# Altium integrated library Maxim Sensors.IntLib: 1171 symbols (part 28 of 61)
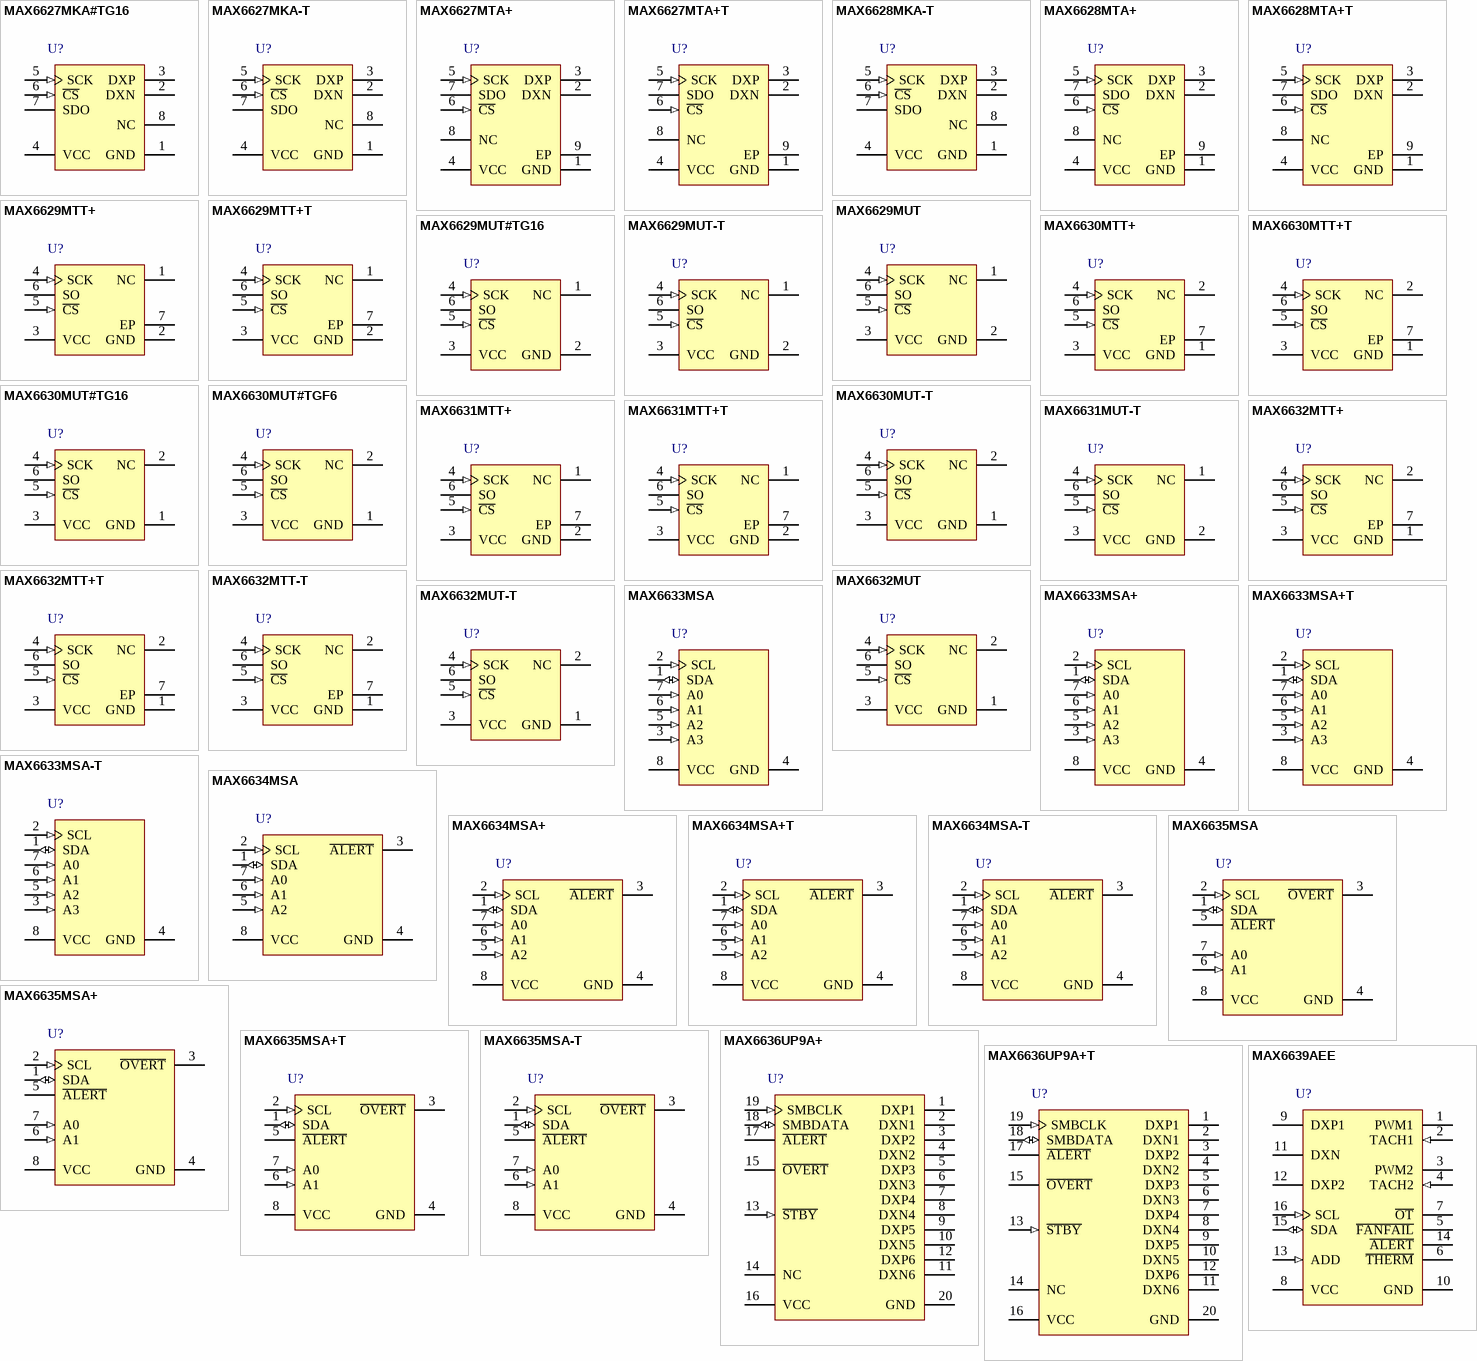
[diagram p60: symbols MAX6627MKA#TG16 to MAX6639AEE]

## MAX6632MUT
designator U?
+ Sign Digital Temperature Sensor with Serial Interface, 12 Bits Temperature Resolution, -55 to 125 degC, 6-Pin SOT23 (U6F-6); Generic Part Number: MAX6632; PartNumber: MAX6632MUT; Interface: 3-Wire/SPI; Parasite Pwr.: No; DatasheetVersion: Rev. 4; PackageVersion: Rev. N, 08/2012; PackageReference: U6F-6; PackageDescription: 6-Pin Small-Outline Transistor Package, Body 1.625 x 2.9 mm, Pitch 0.95 mm; Supplier 1: Mouser; Supplier Part Number 1: N/A; Mounting Technology: Surface Mount; Code_JEDEC: MO-178; ComponentLink1Description: Manufacturer URL; ComponentLink1URL: http://www.maximintegrated.com/; ComponentLink2Description: Datasheet; ComponentLink2URL: http://datasheets.maximintegrated.com/en/ds/MAX6629-MAX6632.pdf; ComponentLink3Description: Package Specification; ComponentLink3URL: http://pdfserv.maximintegrated.com/package_dwgs/21-0058.PDF
footprint MAXM-U6F-6_N (SOT23, 6-Leads, Body 2.9x1.625mm, Pitch 0.95mm, IPC Medium Density)
footprint MAXM-U6F-6_L (SOT23, 6-Leads, Body 2.9x1.625mm, Pitch 0.95mm, IPC High Density)
footprint MAXM-U6F-6_M (SOT23, 6-Leads, Body 2.9x1.625mm, Pitch 0.95mm, IPC Low Density)
pins: 1 GND (power) "Ground", 2 NC "No Connect. Connect to ground plane for better thermal performance to the PC board.", 3 VCC (power) "Supply Voltage Input. Bypass VCC to GND with a 0.1uF capacitor. VCC can also be powered from a logic output as long as the voltage level is greater than 3.0V and the logic output is not noisy. Setting the logic output low (See Datasheet)", 4 SCK (in) "Serial Clock Input", 5 ~{CS} (in) "Chip-Select Input. Enables the interface. A rising edge off C\S\ initiates the next conversion. Pulling C\S\ low initiates an idle state.", 6 SO (hiz) "Serial Data Output"

## MAX6632MUT-T
designator U?
+ Sign Digital Temperature Sensor with Serial Interface, 12 Bits Temperature Resolution, -55 to 125 degC, 6-Pin SOT23 (U6F-6), Tape and Reel; Generic Part Number: MAX6632; PartNumber: MAX6632MUT-T; Interface: 3-Wire/SPI; Parasite Pwr.: No; DatasheetVersion: Rev. 4; PackageVersion: Rev. N, 08/2012; PackageReference: U6F-6; PackageDescription: 6-Pin Small-Outline Transistor Package, Body 1.625 x 2.9 mm, Pitch 0.95 mm; Supplier 1: Digi-Key; Supplier Part Number 1: MAX6632MUT-T-ND; Supplier 2: Mouser; Supplier Part Number 2: 700-MAX6632MUT-T-; Packing: Tape and Reel; Mounting Technology: Surface Mount; Code_JEDEC: MO-178; ComponentLink1Description: Manufacturer URL; ComponentLink1URL: http://www.maximintegrated.com/; ComponentLink2Description: Datasheet; ComponentLink2URL: http://datasheets.maximintegrated.com/en/ds/MAX6629-MAX6632.pdf; ComponentLink3Description: Package Specification; ComponentLink3URL: http://pdfserv.maximintegrated.com/package_dwgs/21-0058.PDF
footprint MAXM-U6F-6_N (SOT23, 6-Leads, Body 2.9x1.625mm, Pitch 0.95mm, IPC Medium Density)
footprint MAXM-U6F-6_L (SOT23, 6-Leads, Body 2.9x1.625mm, Pitch 0.95mm, IPC High Density)
footprint MAXM-U6F-6_M (SOT23, 6-Leads, Body 2.9x1.625mm, Pitch 0.95mm, IPC Low Density)
pins: 1 GND (power) "Ground", 2 NC "No Connect. Connect to ground plane for better thermal performance to the PC board.", 3 VCC (power) "Supply Voltage Input. Bypass VCC to GND with a 0.1uF capacitor. VCC can also be powered from a logic output as long as the voltage level is greater than 3.0V and the logic output is not noisy. Setting the logic output low (See Datasheet)", 4 SCK (in) "Serial Clock Input", 5 ~{CS} (in) "Chip-Select Input. Enables the interface. A rising edge off C\S\ initiates the next conversion. Pulling C\S\ low initiates an idle state.", 6 SO (hiz) "Serial Data Output"

## MAX6633MSA
designator U?
12-Bit Plus Sign Temperature Sensor with I2C / SMBus-Compatible Serial Interface, 13 Bits Temperature Resolution, -55 to 150 degC, 8-Pin SOIC (S8-2); Generic Part Number: MAX6633; PartNumber: MAX6633MSA; Interface: 2-Wire/I2C/SMBus; Multi Droppable: Yes; Parasite Pwr.: No; DatasheetVersion: Rev. 0; PackageVersion: Rev. D, 10/2012; PackageReference: S8-2; PackageDescription: 8-Pin Small-Outline IC, Narrow (0.15in) (S8-2), Body 4.90 x 3.90 mm, Pitch 1.27 mm; Supplier 1: Mouser; Supplier Part Number 1: N/A; Mounting Technology: Surface Mount; Code_JEDEC: MS012; ComponentLink1Description: Manufacturer URL; ComponentLink1URL: http://www.maximintegrated.com/; ComponentLink2Description: Datasheet; ComponentLink2URL: http://datasheets.maximintegrated.com/en/ds/MAX6633-MAX6635.pdf; ComponentLink3Description: Package Specification; ComponentLink3URL: http://pdfserv.maximintegrated.com/package_dwgs/21-0041.PDF
footprint MAXM-S8-2_N (SOIC, 8-Leads, Body 4.90x3.90mm, Pitch 1.27mm, IPC Medium Density)
footprint MAXM-S8-2_L (SOIC, 8-Leads, Body 4.90x3.90mm, Pitch 1.27mm, IPC High Density)
footprint MAXM-S8-2_M (SOIC, 8-Leads, Body 4.90x3.90mm, Pitch 1.27mm, IPC Low Density)
pins: 1 SDA (io) "Serial Data Input/Output. Open drain.", 2 SCL (in) "Serial Clock Input", 3 A3 (in) "Address Pin", 4 GND (power) "Ground", 5 A2 (in) "Address Pin", 6 A1 (in) "Address Pin", 7 A0 (in) "Address Pin", 8 VCC (power) "Supply Voltage Input. +3.0V to +5.5V. Bypass VCC to GND with a 0.1uF capacitor."

## MAX6633MSA+
designator U?
12-Bit Plus Sign Temperature Sensor with I2C / SMBus-Compatible Serial Interface, 13 Bits Temperature Resolution, -55 to 150 degC, 8-Pin SOIC (S8+2), Pb-Free; Generic Part Number: MAX6633; PartNumber: MAX6633MSA+; Interface: 2-Wire/I2C/SMBus; Multi Droppable: Yes; Parasite Pwr.: No; DatasheetVersion: Rev. 0; PackageVersion: Rev. D, 10/2012; PackageReference: S8+2; PackageDescription: 8-Pin Small-Outline IC, Narrow (0.15in) (S8+2), Body 4.90 x 3.90 mm, Pitch 1.27 mm; Supplier 1: Digi-Key; Supplier Part Number 1: MAX6633MSA+-ND; Supplier 2: Farnell; Supplier Part Number 2: 2113188; Supplier 3: Newark; Supplier Part Number 3: 95T9212; Supplier 4: Mouser; Supplier Part Number 4: 700-MAX6633MSA; Mounting Technology: Surface Mount; Code_JEDEC: MS012; ComponentLink1Description: Manufacturer URL; ComponentLink1URL: http://www.maximintegrated.com/; ComponentLink2Description: Datasheet; ComponentLink2URL: http://datasheets.maximintegrated.com/en/ds/MAX6633-MAX6635.pdf; ComponentLink3Description: Package Specification; ComponentLink3URL: http://pdfserv.maximintegrated.com/package_dwgs/21-0041.PDF
footprint MAXM-S8+2_N (SOIC, 8-Leads, Body 4.90x3.90mm, Pitch 1.27mm, IPC Medium Density)
footprint MAXM-S8+2_L (SOIC, 8-Leads, Body 4.90x3.90mm, Pitch 1.27mm, IPC High Density)
footprint MAXM-S8+2_M (SOIC, 8-Leads, Body 4.90x3.90mm, Pitch 1.27mm, IPC Low Density)
pins: 1 SDA (io) "Serial Data Input/Output. Open drain.", 2 SCL (in) "Serial Clock Input", 3 A3 (in) "Address Pin", 4 GND (power) "Ground", 5 A2 (in) "Address Pin", 6 A1 (in) "Address Pin", 7 A0 (in) "Address Pin", 8 VCC (power) "Supply Voltage Input. +3.0V to +5.5V. Bypass VCC to GND with a 0.1uF capacitor."

## MAX6633MSA+T
designator U?
12-Bit Plus Sign Temperature Sensor with I2C / SMBus-Compatible Serial Interface, 13 Bits Temperature Resolution, -55 to 150 degC, 8-Pin SOIC (S8+2), Pb-Free, Tape and Reel; Generic Part Number: MAX6633; PartNumber: MAX6633MSA+T; Interface: 2-Wire/I2C/SMBus; Multi Droppable: Yes; Parasite Pwr.: No; DatasheetVersion: Rev. 0; PackageVersion: Rev. D, 10/2012; PackageReference: S8+2; PackageDescription: 8-Pin Small-Outline IC, Narrow (0.15in) (S8+2), Body 4.90 x 3.90 mm, Pitch 1.27 mm; Supplier 1: Digi-Key; Supplier Part Number 1: MAX6633MSA+T-ND; Supplier 2: Mouser; Supplier Part Number 2: 700-MAX6633MSAT; Packing: Tape and Reel; Mounting Technology: Surface Mount; Code_JEDEC: MS012; ComponentLink1Description: Manufacturer URL; ComponentLink1URL: http://www.maximintegrated.com/; ComponentLink2Description: Datasheet; ComponentLink2URL: http://datasheets.maximintegrated.com/en/ds/MAX6633-MAX6635.pdf; ComponentLink3Description: Package Specification; ComponentLink3URL: http://pdfserv.maximintegrated.com/package_dwgs/21-0041.PDF
footprint MAXM-S8+2_N (SOIC, 8-Leads, Body 4.90x3.90mm, Pitch 1.27mm, IPC Medium Density)
footprint MAXM-S8+2_L (SOIC, 8-Leads, Body 4.90x3.90mm, Pitch 1.27mm, IPC High Density)
footprint MAXM-S8+2_M (SOIC, 8-Leads, Body 4.90x3.90mm, Pitch 1.27mm, IPC Low Density)
pins: 1 SDA (io) "Serial Data Input/Output. Open drain.", 2 SCL (in) "Serial Clock Input", 3 A3 (in) "Address Pin", 4 GND (power) "Ground", 5 A2 (in) "Address Pin", 6 A1 (in) "Address Pin", 7 A0 (in) "Address Pin", 8 VCC (power) "Supply Voltage Input. +3.0V to +5.5V. Bypass VCC to GND with a 0.1uF capacitor."

## MAX6633MSA-T
designator U?
12-Bit Plus Sign Temperature Sensor with I2C / SMBus-Compatible Serial Interface, 13 Bits Temperature Resolution, -55 to 150 degC, 8-Pin SOIC (S8-2), Tape and Reel; Generic Part Number: MAX6633; PartNumber: MAX6633MSA-T; Interface: 2-Wire/I2C/SMBus; Multi Droppable: Yes; Parasite Pwr.: No; DatasheetVersion: Rev. 0; PackageVersion: Rev. D, 10/2012; PackageReference: S8-2; PackageDescription: 8-Pin Small-Outline IC, Narrow (0.15in) (S8-2), Body 4.90 x 3.90 mm, Pitch 1.27 mm; Supplier 1: Mouser; Supplier Part Number 1: N/A; Packing: Tape and Reel; Mounting Technology: Surface Mount; Code_JEDEC: MS012; ComponentLink1Description: Manufacturer URL; ComponentLink1URL: http://www.maximintegrated.com/; ComponentLink2Description: Datasheet; ComponentLink2URL: http://datasheets.maximintegrated.com/en/ds/MAX6633-MAX6635.pdf; ComponentLink3Description: Package Specification; ComponentLink3URL: http://pdfserv.maximintegrated.com/package_dwgs/21-0041.PDF
footprint MAXM-S8-2_N (SOIC, 8-Leads, Body 4.90x3.90mm, Pitch 1.27mm, IPC Medium Density)
footprint MAXM-S8-2_L (SOIC, 8-Leads, Body 4.90x3.90mm, Pitch 1.27mm, IPC High Density)
footprint MAXM-S8-2_M (SOIC, 8-Leads, Body 4.90x3.90mm, Pitch 1.27mm, IPC Low Density)
pins: 1 SDA (io) "Serial Data Input/Output. Open drain.", 2 SCL (in) "Serial Clock Input", 3 A3 (in) "Address Pin", 4 GND (power) "Ground", 5 A2 (in) "Address Pin", 6 A1 (in) "Address Pin", 7 A0 (in) "Address Pin", 8 VCC (power) "Supply Voltage Input. +3.0V to +5.5V. Bypass VCC to GND with a 0.1uF capacitor."

## MAX6634MSA
designator U?
12-Bit Plus Sign Temperature Sensor with I2C / SMBus-Compatible Serial Interface, 13 Bits Temperature Resolution, -55 to 150 degC, 8-Pin SOIC (S8-2); Generic Part Number: MAX6634; PartNumber: MAX6634MSA; Alarm Output: Alert; Interface: 2-Wire/I2C/SMBus; Multi Droppable: Yes; Parasite Pwr.: No; DatasheetVersion: Rev. 0; PackageVersion: Rev. D, 10/2012; PackageReference: S8-2; PackageDescription: 8-Pin Small-Outline IC, Narrow (0.15in) (S8-2), Body 4.90 x 3.90 mm, Pitch 1.27 mm; Supplier 1: Digi-Key; Supplier Part Number 1: MAX6634MSA-ND; Supplier 2: Mouser; Supplier Part Number 2: 700-MAX6634MSA-NR; Mounting Technology: Surface Mount; Code_JEDEC: MS012; ComponentLink1Description: Manufacturer URL; ComponentLink1URL: http://www.maximintegrated.com/; ComponentLink2Description: Datasheet; ComponentLink2URL: http://datasheets.maximintegrated.com/en/ds/MAX6633-MAX6635.pdf; ComponentLink3Description: Package Specification; ComponentLink3URL: http://pdfserv.maximintegrated.com/package_dwgs/21-0041.PDF
footprint MAXM-S8-2_N (SOIC, 8-Leads, Body 4.90x3.90mm, Pitch 1.27mm, IPC Medium Density)
footprint MAXM-S8-2_L (SOIC, 8-Leads, Body 4.90x3.90mm, Pitch 1.27mm, IPC High Density)
footprint MAXM-S8-2_M (SOIC, 8-Leads, Body 4.90x3.90mm, Pitch 1.27mm, IPC Low Density)
pins: 1 SDA (io) "Serial Data Input/Output. Open drain.", 2 SCL (in) "Serial Clock Input", 3 ~{ALERT} (oc) "A\L\E\R\T\ Output. Open drain.", 4 GND (power) "Ground", 5 A2 (in) "Address Pin", 6 A1 (in) "Address Pin", 7 A0 (in) "Address Pin", 8 VCC (power) "Supply Voltage Input. +3.0V to +5.5V. Bypass VCC to GND with a 0.1uF capacitor."

## MAX6634MSA+
designator U?
12-Bit Plus Sign Temperature Sensor with I2C / SMBus-Compatible Serial Interface, 13 Bits Temperature Resolution, -55 to 150 degC, 8Pin SOIC (S8+2), Pb-Free,; Generic Part Number: MAX6634; PartNumber: MAX6634MSA+; Alarm Output: Alert; Interface: 2-Wire/I2C/SMBus; Multi Droppable: Yes; Parasite Pwr.: No; DatasheetVersion: Rev. 0; PackageVersion: Rev. D, 10/2012; PackageReference: S8+2; PackageDescription: 8-Pin Small-Outline IC, Narrow (0.15in) (S8+2), Body 4.90 x 3.90 mm, Pitch 1.27 mm; Supplier 1: Digi-Key; Supplier Part Number 1: MAX6634MSA+-ND; Supplier 2: Mouser; Supplier Part Number 2: 700-MAX6634MSA; Mounting Technology: Surface Mount; Code_JEDEC: MS012; ComponentLink1Description: Manufacturer URL; ComponentLink1URL: http://www.maximintegrated.com/; ComponentLink2Description: Datasheet; ComponentLink2URL: http://datasheets.maximintegrated.com/en/ds/MAX6633-MAX6635.pdf; ComponentLink3Description: Package Specification; ComponentLink3URL: http://pdfserv.maximintegrated.com/package_dwgs/21-0041.PDF
footprint MAXM-S8+2_N (SOIC, 8-Leads, Body 4.90x3.90mm, Pitch 1.27mm, IPC Medium Density)
footprint MAXM-S8+2_L (SOIC, 8-Leads, Body 4.90x3.90mm, Pitch 1.27mm, IPC High Density)
footprint MAXM-S8+2_M (SOIC, 8-Leads, Body 4.90x3.90mm, Pitch 1.27mm, IPC Low Density)
pins: 1 SDA (io) "Serial Data Input/Output. Open drain.", 2 SCL (in) "Serial Clock Input", 3 ~{ALERT} (oc) "A\L\E\R\T\ Output. Open drain.", 4 GND (power) "Ground", 5 A2 (in) "Address Pin", 6 A1 (in) "Address Pin", 7 A0 (in) "Address Pin", 8 VCC (power) "Supply Voltage Input. +3.0V to +5.5V. Bypass VCC to GND with a 0.1uF capacitor."

## MAX6634MSA+T
designator U?
12-Bit Plus Sign Temperature Sensor with I2C / SMBus-Compatible Serial Interface, 13 Bits Temperature Resolution, -55 to 150 degC, 8-Pin SOIC (S8+2), Pb-Free, Tape and Reel; Generic Part Number: MAX6634; PartNumber: MAX6634MSA+T; Alarm Output: Alert; Interface: 2-Wire/I2C/SMBus; Multi Droppable: Yes; Parasite Pwr.: No; DatasheetVersion: Rev. 0; PackageVersion: Rev. D, 10/2012; PackageReference: S8+2; PackageDescription: 8-Pin Small-Outline IC, Narrow (0.15in) (S8+2), Body 4.90 x 3.90 mm, Pitch 1.27 mm; Supplier 1: Digi-Key; Supplier Part Number 1: MAX6634MSA+T-ND; Supplier 2: Mouser; Supplier Part Number 2: 700-MAX6634MSAT; Packing: Tape and Reel; Mounting Technology: Surface Mount; Code_JEDEC: MS012; ComponentLink1Description: Manufacturer URL; ComponentLink1URL: http://www.maximintegrated.com/; ComponentLink2Description: Datasheet; ComponentLink2URL: http://datasheets.maximintegrated.com/en/ds/MAX6633-MAX6635.pdf; ComponentLink3Description: Package Specification; ComponentLink3URL: http://pdfserv.maximintegrated.com/package_dwgs/21-0041.PDF
footprint MAXM-S8+2_N (SOIC, 8-Leads, Body 4.90x3.90mm, Pitch 1.27mm, IPC Medium Density)
footprint MAXM-S8+2_L (SOIC, 8-Leads, Body 4.90x3.90mm, Pitch 1.27mm, IPC High Density)
footprint MAXM-S8+2_M (SOIC, 8-Leads, Body 4.90x3.90mm, Pitch 1.27mm, IPC Low Density)
pins: 1 SDA (io) "Serial Data Input/Output. Open drain.", 2 SCL (in) "Serial Clock Input", 3 ~{ALERT} (oc) "A\L\E\R\T\ Output. Open drain.", 4 GND (power) "Ground", 5 A2 (in) "Address Pin", 6 A1 (in) "Address Pin", 7 A0 (in) "Address Pin", 8 VCC (power) "Supply Voltage Input. +3.0V to +5.5V. Bypass VCC to GND with a 0.1uF capacitor."

## MAX6634MSA-T
designator U?
12-Bit Plus Sign Temperature Sensor with I2C / SMBus-Compatible Serial Interface, 13 Bits Temperature Resolution, -55 to 150 degC, 8-Pin SOIC (S8-2), Tape and Reel; Generic Part Number: MAX6634; PartNumber: MAX6634MSA-T; Alarm Output: Alert; Interface: 2-Wire/I2C/SMBus; Multi Droppable: Yes; Parasite Pwr.: No; DatasheetVersion: Rev. 0; PackageVersion: Rev. D, 10/2012; PackageReference: S8-2; PackageDescription: 8-Pin Small-Outline IC, Narrow (0.15in) (S8-2), Body 4.90 x 3.90 mm, Pitch 1.27 mm; Supplier 1: Digi-Key; Supplier Part Number 1: MAX6634MSA-T-ND; Supplier 2: Mouser; Supplier Part Number 2: 700-MAX6634MSA-T-NR; Packing: Tape and Reel; Mounting Technology: Surface Mount; Code_JEDEC: MS012; ComponentLink1Description: Manufacturer URL; ComponentLink1URL: http://www.maximintegrated.com/; ComponentLink2Description: Datasheet; ComponentLink2URL: http://datasheets.maximintegrated.com/en/ds/MAX6633-MAX6635.pdf; ComponentLink3Description: Package Specification; ComponentLink3URL: http://pdfserv.maximintegrated.com/package_dwgs/21-0041.PDF
footprint MAXM-S8-2_N (SOIC, 8-Leads, Body 4.90x3.90mm, Pitch 1.27mm, IPC Medium Density)
footprint MAXM-S8-2_L (SOIC, 8-Leads, Body 4.90x3.90mm, Pitch 1.27mm, IPC High Density)
footprint MAXM-S8-2_M (SOIC, 8-Leads, Body 4.90x3.90mm, Pitch 1.27mm, IPC Low Density)
pins: 1 SDA (io) "Serial Data Input/Output. Open drain.", 2 SCL (in) "Serial Clock Input", 3 ~{ALERT} (oc) "A\L\E\R\T\ Output. Open drain.", 4 GND (power) "Ground", 5 A2 (in) "Address Pin", 6 A1 (in) "Address Pin", 7 A0 (in) "Address Pin", 8 VCC (power) "Supply Voltage Input. +3.0V to +5.5V. Bypass VCC to GND with a 0.1uF capacitor."

## MAX6635MSA
designator U?
12-Bit Plus Sign Temperature Sensor with I2C / SMBus-Compatible Serial Interface, 13 Bits Temperature Resolution, -55 to 150 degC, 8-Pin SOIC (S8-2); Generic Part Number: MAX6635; PartNumber: MAX6635MSA; Alarm Output: Alert, Overt; Interface: 2-Wire/I2C/SMBus; Multi Droppable: Yes; Parasite Pwr.: No; DatasheetVersion: Rev. 0; PackageVersion: Rev. D, 10/2012; PackageReference: S8-2; PackageDescription: 8-Pin Small-Outline IC, Narrow (0.15in) (S8-2), Body 4.90 x 3.90 mm, Pitch 1.27 mm; Supplier 1: Mouser; Supplier Part Number 1: N/A; Mounting Technology: Surface Mount; Code_JEDEC: MS012; ComponentLink1Description: Manufacturer URL; ComponentLink1URL: http://www.maximintegrated.com/; ComponentLink2Description: Datasheet; ComponentLink2URL: http://datasheets.maximintegrated.com/en/ds/MAX6633-MAX6635.pdf; ComponentLink3Description: Package Specification; ComponentLink3URL: http://pdfserv.maximintegrated.com/package_dwgs/21-0041.PDF
footprint MAXM-S8-2_N (SOIC, 8-Leads, Body 4.90x3.90mm, Pitch 1.27mm, IPC Medium Density)
footprint MAXM-S8-2_L (SOIC, 8-Leads, Body 4.90x3.90mm, Pitch 1.27mm, IPC High Density)
footprint MAXM-S8-2_M (SOIC, 8-Leads, Body 4.90x3.90mm, Pitch 1.27mm, IPC Low Density)
pins: 1 SDA (io) "Serial Data Input/Output. Open drain.", 2 SCL (in) "Serial Clock Input", 3 ~{OVERT} (oc) "O\V\E\R\T\ Output. Open drain.", 4 GND (power) "Ground", 5 ~{ALERT} (oc) "A\L\E\R\T\ Output. Open drain.", 6 A1 (in) "Address Pin", 7 A0 (in) "Address Pin", 8 VCC (power) "Supply Voltage Input. +3.0V to +5.5V. Bypass VCC to GND with a 0.1uF capacitor."

## MAX6635MSA+
designator U?
12-Bit Plus Sign Temperature Sensor with I2C / SMBus-Compatible Serial Interface, 13 Bits Temperature Resolution, -55 to 150 degC, 8-Pin SOIC (S8+2), Pb-Free; Generic Part Number: MAX6635; PartNumber: MAX6635MSA+; Alarm Output: Alert, Overt; Interface: 2-Wire/I2C/SMBus; Multi Droppable: Yes; Parasite Pwr.: No; DatasheetVersion: Rev. 0; PackageVersion: Rev. D, 10/2012; PackageReference: S8+2; PackageDescription: 8-Pin Small-Outline IC, Narrow (0.15in) (S8+2), Body 4.90 x 3.90 mm, Pitch 1.27 mm; Supplier 1: Digi-Key; Supplier Part Number 1: MAX6635MSA+-ND; Supplier 2: Mouser; Supplier Part Number 2: 700-MAX6635MSA; Mounting Technology: Surface Mount; Code_JEDEC: MS012; ComponentLink1Description: Manufacturer URL; ComponentLink1URL: http://www.maximintegrated.com/; ComponentLink2Description: Datasheet; ComponentLink2URL: http://datasheets.maximintegrated.com/en/ds/MAX6633-MAX6635.pdf; ComponentLink3Description: Package Specification; ComponentLink3URL: http://pdfserv.maximintegrated.com/package_dwgs/21-0041.PDF
footprint MAXM-S8+2_N (SOIC, 8-Leads, Body 4.90x3.90mm, Pitch 1.27mm, IPC Medium Density)
footprint MAXM-S8+2_L (SOIC, 8-Leads, Body 4.90x3.90mm, Pitch 1.27mm, IPC High Density)
footprint MAXM-S8+2_M (SOIC, 8-Leads, Body 4.90x3.90mm, Pitch 1.27mm, IPC Low Density)
pins: 1 SDA (io) "Serial Data Input/Output. Open drain.", 2 SCL (in) "Serial Clock Input", 3 ~{OVERT} (oc) "O\V\E\R\T\ Output. Open drain.", 4 GND (power) "Ground", 5 ~{ALERT} (oc) "A\L\E\R\T\ Output. Open drain.", 6 A1 (in) "Address Pin", 7 A0 (in) "Address Pin", 8 VCC (power) "Supply Voltage Input. +3.0V to +5.5V. Bypass VCC to GND with a 0.1uF capacitor."

## MAX6635MSA+T
designator U?
12-Bit Plus Sign Temperature Sensor with I2C / SMBus-Compatible Serial Interface, 13 Bits Temperature Resolution, -55 to 150 degC, 8-Pin SOIC (S8+2), Pb-Free, Tape and Reel; Generic Part Number: MAX6635; PartNumber: MAX6635MSA+T; Alarm Output: Alert, Overt; Interface: 2-Wire/I2C/SMBus; Multi Droppable: Yes; Parasite Pwr.: No; DatasheetVersion: Rev. 0; PackageVersion: Rev. D, 10/2012; PackageReference: S8+2; PackageDescription: 8-Pin Small-Outline IC, Narrow (0.15in) (S8+2), Body 4.90 x 3.90 mm, Pitch 1.27 mm; Supplier 1: Digi-Key; Supplier Part Number 1: MAX6635MSA+T-ND; Supplier 2: Mouser; Supplier Part Number 2: 700-MAX6635MSAT; Packing: Tape and Reel; Mounting Technology: Surface Mount; Code_JEDEC: MS012; ComponentLink1Description: Manufacturer URL; ComponentLink1URL: http://www.maximintegrated.com/; ComponentLink2Description: Datasheet; ComponentLink2URL: http://datasheets.maximintegrated.com/en/ds/MAX6633-MAX6635.pdf; ComponentLink3Description: Package Specification; ComponentLink3URL: http://pdfserv.maximintegrated.com/package_dwgs/21-0041.PDF
footprint MAXM-S8+2_N (SOIC, 8-Leads, Body 4.90x3.90mm, Pitch 1.27mm, IPC Medium Density)
footprint MAXM-S8+2_L (SOIC, 8-Leads, Body 4.90x3.90mm, Pitch 1.27mm, IPC High Density)
footprint MAXM-S8+2_M (SOIC, 8-Leads, Body 4.90x3.90mm, Pitch 1.27mm, IPC Low Density)
pins: 1 SDA (io) "Serial Data Input/Output. Open drain.", 2 SCL (in) "Serial Clock Input", 3 ~{OVERT} (oc) "O\V\E\R\T\ Output. Open drain.", 4 GND (power) "Ground", 5 ~{ALERT} (oc) "A\L\E\R\T\ Output. Open drain.", 6 A1 (in) "Address Pin", 7 A0 (in) "Address Pin", 8 VCC (power) "Supply Voltage Input. +3.0V to +5.5V. Bypass VCC to GND with a 0.1uF capacitor."

## MAX6635MSA-T
designator U?
12-Bit Plus Sign Temperature Sensor with I2C / SMBus-Compatible Serial Interface, 13 Bits Temperature Resolution, -55 to 150 degC, 8-Pin SOIC (S8+2), Tape and Reel; Generic Part Number: MAX6635; PartNumber: MAX6635MSA-T; Alarm Output: Alert, Overt; Interface: 2-Wire/I2C/SMBus; Multi Droppable: Yes; Parasite Pwr.: No; DatasheetVersion: Rev. 0; PackageVersion: Rev. D, 10/2012; PackageReference: S8-2; PackageDescription: 8-Pin Small-Outline IC, Narrow (0.15in) (S8-2), Body 4.90 x 3.90 mm, Pitch 1.27 mm; Supplier 1: Mouser; Supplier Part Number 1: N/A; Packing: Tape and Reel; Mounting Technology: Surface Mount; Code_JEDEC: MS012; ComponentLink1Description: Manufacturer URL; ComponentLink1URL: http://www.maximintegrated.com/; ComponentLink2Description: Datasheet; ComponentLink2URL: http://datasheets.maximintegrated.com/en/ds/MAX6633-MAX6635.pdf; ComponentLink3Description: Package Specification; ComponentLink3URL: http://pdfserv.maximintegrated.com/package_dwgs/21-0041.PDF
footprint MAXM-S8-2_N (SOIC, 8-Leads, Body 4.90x3.90mm, Pitch 1.27mm, IPC Medium Density)
footprint MAXM-S8-2_L (SOIC, 8-Leads, Body 4.90x3.90mm, Pitch 1.27mm, IPC High Density)
footprint MAXM-S8-2_M (SOIC, 8-Leads, Body 4.90x3.90mm, Pitch 1.27mm, IPC Low Density)
pins: 1 SDA (io) "Serial Data Input/Output. Open drain.", 2 SCL (in) "Serial Clock Input", 3 ~{OVERT} (oc) "O\V\E\R\T\ Output. Open drain.", 4 GND (power) "Ground", 5 ~{ALERT} (oc) "A\L\E\R\T\ Output. Open drain.", 6 A1 (in) "Address Pin", 7 A0 (in) "Address Pin", 8 VCC (power) "Supply Voltage Input. +3.0V to +5.5V. Bypass VCC to GND with a 0.1uF capacitor."

## MAX6636UP9A+
designator U?
7-Channel Precision Temperature Monitor, 8, 11 Bits Temperature Resolution, -40 to 125 degC, 20-Pin SOP (U20+2), Pb-Free; Generic Part Number: MAX6636; PartNumber: MAX6636UP9A+; Alarm Output: Alert, Overt; Functions: Dual Temperature Alarms, Multi-Channel Temperature Monitor, Remote & Local Sensor; Interface: 2-Wire/I2C/SMBus; Parasite Pwr.: No; DatasheetVersion: Rev. 0; PackageVersion: Rev. L, 07/2010; PackageReference: U20+2; PackageDescription: 20-Pin Thin Shrink Small-Outline Package, Body 4.4 x 6.5 mm, Pitch 0.65 mm; Supplier 1: Digi-Key; Supplier Part Number 1: MAX6636UP9A+-ND; Supplier 2: Mouser; Supplier Part Number 2: 700-MAX6636UP9A; Mounting Technology: Surface Mount; Code_JEDEC: MO-153; ComponentLink1Description: Manufacturer URL; ComponentLink1URL: http://www.maximintegrated.com/; ComponentLink2Description: Datasheet; ComponentLink2URL: http://datasheets.maximintegrated.com/en/ds/MAX6636.pdf; ComponentLink3Description: Package Specification; ComponentLink3URL: http://pdfserv.maximintegrated.com/package_dwgs/21-0066.PDF
footprint MAXM-U20+2_N (SOP, 20-Leads, Body 6.5x4.4mm, Pitch 0.65mm, IPC Medium Density)
footprint MAXM-U20+2_L (SOP, 20-Leads, Body 6.5x4.4mm, Pitch 0.65mm, IPC High Density)
footprint MAXM-U20+2_M (SOP, 20-Leads, Body 6.5x4.4mm, Pitch 0.65mm, IPC Low Density)
pins: 1 DXP1 "Combined Current Source and A/D Positive Input for Channel 1 Remote Diode. Connect to the anode of a remote-diode-connected temperature-sensing transistor. Leave floating or connect to VCC if no remote diode is used. Place a (See Datasheet)", 2 DXN1 "Cathode Input for Channel 1 Remote Diode. Connect the cathode of the channel 1 remote-diode-connected transistor to DXN1. Internally connected to GND.", 3 DXP2 "Combined Current Source and A/D Positive Input for Channel 2 Remote Diode. Connect to the anode of a remote-diode-connected temperature-sensing transistor. Leave floating or connect to VCC if no remote diode is used. Place a (See Datasheet)", 4 DXN2 "Cathode Input for Channel 2 Remote Diode. Connect the cathode of the channel 2 remote-diode-connected transistor to DXN2.", 5 DXP3 "Combined Current Source and A/D Positive Input for Channel 3 Remote Diode. Connect to the anode of a remote-diode-connected temperature-sensing transistor. Leave floating or connect to VCC if no remote diode is used. Place a (See Datasheet)", 6 DXN3 "Cathode Input for Channel 3 Remote Diode. Connect the cathode of the channel 3 remote-diode-connected transistor to DXN3.", 7 DXP4 "Combined Current Source and A/D Positive Input for Channel 4 Remote Diode. Connect to the anode of a remote-diode-connected temperature-sensing transistor. Leave floating or connect to VCC if no remote diode is used. Place a (See Datasheet)", 8 DXN4 "Cathode Input for Channel 4 Remote Diode. Connect the cathode of the channel 4 remote-diode-connected transistor to DXN4.", 9 DXP5 "Combined Current Source and A/D Positive Input for Channel 5 Remote Diode. Connect to the anode of a remote-diode-connected temperature-sensing transistor. Leave floating or connect to VCC if no remote diode is used. Place a (See Datasheet)", 10 DXN5 "Cathode Input for Channel 5 Remote Diode. Connect the cathode of the channel 5 remote-diode-connected transistor to DXN5.", 11 DXN6 "Cathode Input for Channel 6 Remote Diode. Connect the cathode of the channel 6 remote-diode-connected transistor to DXN6.", 12 DXP6 "Combined Current Source and A/D Positive Input for Channel 6 Remote Diode. Connect to the anode of a remote-diode-connected temperature-sensing transistor. Leave floating or connect to VCC if no remote diode is used. Place a (See Datasheet)", 13 ~{STBY} (in) "Active-Low Standby Input. Drive S\T\B\Y\ logic-low to place the MAX6636 in standby mode, or logic-high for operate mode. Temperature and threshold data are retained in standby mode.", 14 NC "No Connection. Must be connected to ground.", 15 ~{OVERT} (oc) "Overtemperature Active-Low, Open-Drain Output. O\V\E\R\T\ asserts low when the temperature of channels 1, 4, 5, and 6 exceeds the programmed threshold limit.", 16 VCC (power) "Supply Voltage Input. Bypass to GND with a 0.1µF capacitor.", 17 ~{ALERT} (oc) "SMBus Alert (Interrupt), Active-Low, Open-Drain Output. A\L\E\R\T\ asserts low when the temperature of any channel exceeds the programmed A\L\E\R\T\ threshold.", 18 SMBDATA (io) "SMBus Serial-Data Input/Output. Connect to a pullup resistor.", 19 SMBCLK (in) "SMBus Serial-Clock Input. Connect to a pullup resistor.", 20 GND (power) "Ground"

## MAX6636UP9A+T
designator U?
7-Channel Precision Temperature Monitor, 8, 11 Bits Temperature Resolution, -40 to 125 degC, 20-Pin SOP (U20+2), Pb-Free, Tape and Reel; Generic Part Number: MAX6636; PartNumber: MAX6636UP9A+T; Alarm Output: Alert, Overt; Functions: Dual Temperature Alarms, Multi-Channel Temperature Monitor, Remote & Local Sensor; Interface: 2-Wire/I2C/SMBus; Parasite Pwr.: No; DatasheetVersion: Rev. 0; PackageVersion: Rev. L, 07/2010; PackageReference: U20+2; PackageDescription: 20-Pin Thin Shrink Small-Outline Package, Body 4.4 x 6.5 mm, Pitch 0.65 mm; Supplier 1: Digi-Key; Supplier Part Number 1: MAX6636UP9A+T-ND; Supplier 2: Mouser; Supplier Part Number 2: 700-MAX6636UP9AT; Packing: Tape and Reel; Mounting Technology: Surface Mount; Code_JEDEC: MO-153; ComponentLink1Description: Manufacturer URL; ComponentLink1URL: http://www.maximintegrated.com/; ComponentLink2Description: Datasheet; ComponentLink2URL: http://datasheets.maximintegrated.com/en/ds/MAX6636.pdf; ComponentLink3Description: Package Specification; ComponentLink3URL: http://pdfserv.maximintegrated.com/package_dwgs/21-0066.PDF
footprint MAXM-U20+2_N (SOP, 20-Leads, Body 6.5x4.4mm, Pitch 0.65mm, IPC Medium Density)
footprint MAXM-U20+2_L (SOP, 20-Leads, Body 6.5x4.4mm, Pitch 0.65mm, IPC High Density)
footprint MAXM-U20+2_M (SOP, 20-Leads, Body 6.5x4.4mm, Pitch 0.65mm, IPC Low Density)
pins: 1 DXP1 "Combined Current Source and A/D Positive Input for Channel 1 Remote Diode. Connect to the anode of a remote-diode-connected temperature-sensing transistor. Leave floating or connect to VCC if no remote diode is used. Place a (See Datasheet)", 2 DXN1 "Cathode Input for Channel 1 Remote Diode. Connect the cathode of the channel 1 remote-diode-connected transistor to DXN1. Internally connected to GND.", 3 DXP2 "Combined Current Source and A/D Positive Input for Channel 2 Remote Diode. Connect to the anode of a remote-diode-connected temperature-sensing transistor. Leave floating or connect to VCC if no remote diode is used. Place a (See Datasheet)", 4 DXN2 "Cathode Input for Channel 2 Remote Diode. Connect the cathode of the channel 2 remote-diode-connected transistor to DXN2.", 5 DXP3 "Combined Current Source and A/D Positive Input for Channel 3 Remote Diode. Connect to the anode of a remote-diode-connected temperature-sensing transistor. Leave floating or connect to VCC if no remote diode is used. Place a (See Datasheet)", 6 DXN3 "Cathode Input for Channel 3 Remote Diode. Connect the cathode of the channel 3 remote-diode-connected transistor to DXN3.", 7 DXP4 "Combined Current Source and A/D Positive Input for Channel 4 Remote Diode. Connect to the anode of a remote-diode-connected temperature-sensing transistor. Leave floating or connect to VCC if no remote diode is used. Place a (See Datasheet)", 8 DXN4 "Cathode Input for Channel 4 Remote Diode. Connect the cathode of the channel 4 remote-diode-connected transistor to DXN4.", 9 DXP5 "Combined Current Source and A/D Positive Input for Channel 5 Remote Diode. Connect to the anode of a remote-diode-connected temperature-sensing transistor. Leave floating or connect to VCC if no remote diode is used. Place a (See Datasheet)", 10 DXN5 "Cathode Input for Channel 5 Remote Diode. Connect the cathode of the channel 5 remote-diode-connected transistor to DXN5.", 11 DXN6 "Cathode Input for Channel 6 Remote Diode. Connect the cathode of the channel 6 remote-diode-connected transistor to DXN6.", 12 DXP6 "Combined Current Source and A/D Positive Input for Channel 6 Remote Diode. Connect to the anode of a remote-diode-connected temperature-sensing transistor. Leave floating or connect to VCC if no remote diode is used. Place a (See Datasheet)", 13 ~{STBY} (in) "Active-Low Standby Input. Drive S\T\B\Y\ logic-low to place the MAX6636 in standby mode, or logic-high for operate mode. Temperature and threshold data are retained in standby mode.", 14 NC "No Connection. Must be connected to ground.", 15 ~{OVERT} (oc) "Overtemperature Active-Low, Open-Drain Output. O\V\E\R\T\ asserts low when the temperature of channels 1, 4, 5, and 6 exceeds the programmed threshold limit.", 16 VCC (power) "Supply Voltage Input. Bypass to GND with a 0.1µF capacitor.", 17 ~{ALERT} (oc) "SMBus Alert (Interrupt), Active-Low, Open-Drain Output. A\L\E\R\T\ asserts low when the temperature of any channel exceeds the programmed A\L\E\R\T\ threshold.", 18 SMBDATA (io) "SMBus Serial-Data Input/Output. Connect to a pullup resistor.", 19 SMBCLK (in) "SMBus Serial-Clock Input. Connect to a pullup resistor.", 20 GND (power) "Ground"

## MAX6639AEE
designator U?
2-Channel Temperature Monitor with Dual, Automatic, PWM Fan-Speed Controller, -40 to 125 degC, 16-Pin SOP (E16-1); Generic Part Number: MAX6639; PartNumber: MAX6639AEE; Fan Controller Functions: Remote & Local Sensor; Interface: 2-Wire/I2C/SMBus; DatasheetVersion: Rev. 2; PackageVersion: Rev. K, 04/2012; PackageReference: E16-1; PackageDescription: 16-Pin Quarter Small-Outline Package (E16-1), Body 4.90 x 3.89 mm, Pitch 0.635 mm; Supplier 1: Mouser; Supplier Part Number 1: N/A; Fan Cntrl.: PWM; Mounting Technology: Surface Mount; Code_JEDEC: MO137; ComponentLink1Description: Manufacturer URL; ComponentLink1URL: http://www.maximintegrated.com/; ComponentLink2Description: Datasheet; ComponentLink2URL: http://datasheets.maximintegrated.com/en/ds/MAX6639-MAX6639F.pdf; ComponentLink3Description: Package Specification; ComponentLink3URL: http://pdfserv.maximintegrated.com/package_dwgs/21-0055.PDF
footprint MAXM-E16-1_N (SOP, 16-Leads, Body 4.9x3.89mm, Pitch 0.635mm, IPC Medium Density)
footprint MAXM-E16-1_L (SOP, 16-Leads, Body 4.9x3.89mm, Pitch 0.635mm, IPC High Density)
footprint MAXM-E16-1_M (SOP, 16-Leads, Body 4.9x3.89mm, Pitch 0.635mm, IPC Low Density)
pins: 1 PWM1 (oc) "Open-Drain Output to Power-Transistor Driving Fan. Connect to the gate of a MOSFET or base of a bipolar transistor. PWM_ requires a pullup resistor. The pullup resistor can be connected to a supply voltage as high as 13.5V, (See Datasheet)", 2 TACH1 (in) "Tachometer Inputs. Connect to the tachometer output of the fan. TACH_ requires a pullup resistor. The pullup resistor can be connected to a supply voltage as high as 13.5V, regardless of the MAX6639’s supply voltage.", 3 PWM2 (oc) "Open-Drain Output to Power-Transistor Driving Fan. Connect to the gate of a MOSFET or base of a bipolar transistor. PWM_ requires a pullup resistor. The pullup resistor can be connected to a supply voltage as high as 13.5V, (See Datasheet)", 4 TACH2 (in) "Tachometer Inputs. Connect to the tachometer output of the fan. TACH_ requires a pullup resistor. The pullup resistor can be connected to a supply voltage as high as 13.5V, regardless of the MAX6639’s supply voltage.", 5 ~{FANFAIL} (oc) "Active-Low, Open-Drain, Fan-Failure Output. Open circuit when VCC = 0.", 6 ~{THERM} (oc) "Active-Low, Open-Drain Thermal Alarm Output. Typically used for clock throttling. Open circuit when VCC = 0.", 7 ~{OT} (oc) "Active-Low, Open-Drain Overtemperature Output. Typically used for system shutdown or clock throttling. Can be pulled up to 5.5V regardless of VCC. Open circuit when VCC = 0.", 8 VCC (power) "Power-Supply Input. 3.3V nominal. Bypass VCC to GND with a 0.1uF capacitor.", 9 DXP1 "Combined Current Source and A/D Positive Input for Remote Diode. Connect to anode of remote-diode-connected temperture-sensing transistor. Do not leave unconnected; connect to DXN if no remote diode is used. Place a 2200pF (See Datasheet)", 10 GND (power) "Ground. Connect to a clean ground reference.", 11 DXN "Remote Diode Current Sink Input. Connect Cathode of the Remote-Diode- Connected Transistor to DXN", 12 DXP2 "Combined Current Source and A/D Positive Input for Remote Diode. Connect to anode of remote-diode-connected temperture-sensing transistor. Do not leave unconnected; connect to DXN if no remote diode is used. Place a 2200pF (See Datasheet)", 13 ADD (in) "Address Input. Sets device slave address. Connect to GND, VCC, or leave unconnected to give three unique addresses. See Table 1.", 14 ~{ALERT} (oc) "Active-Low, Open-Drain SMBus Alert Output", 15 SDA (io) "SMBus Serial-Data Input/Output, Open Drain. Can be pulled up to 5.5V regardless of VCC. Open circuit when VCC = 0.", 16 SCL (in) "SMBus Serial-Clock Input. Can be pulled up to 5.5V regardless of VCC. Open circuit when VCC = 0."

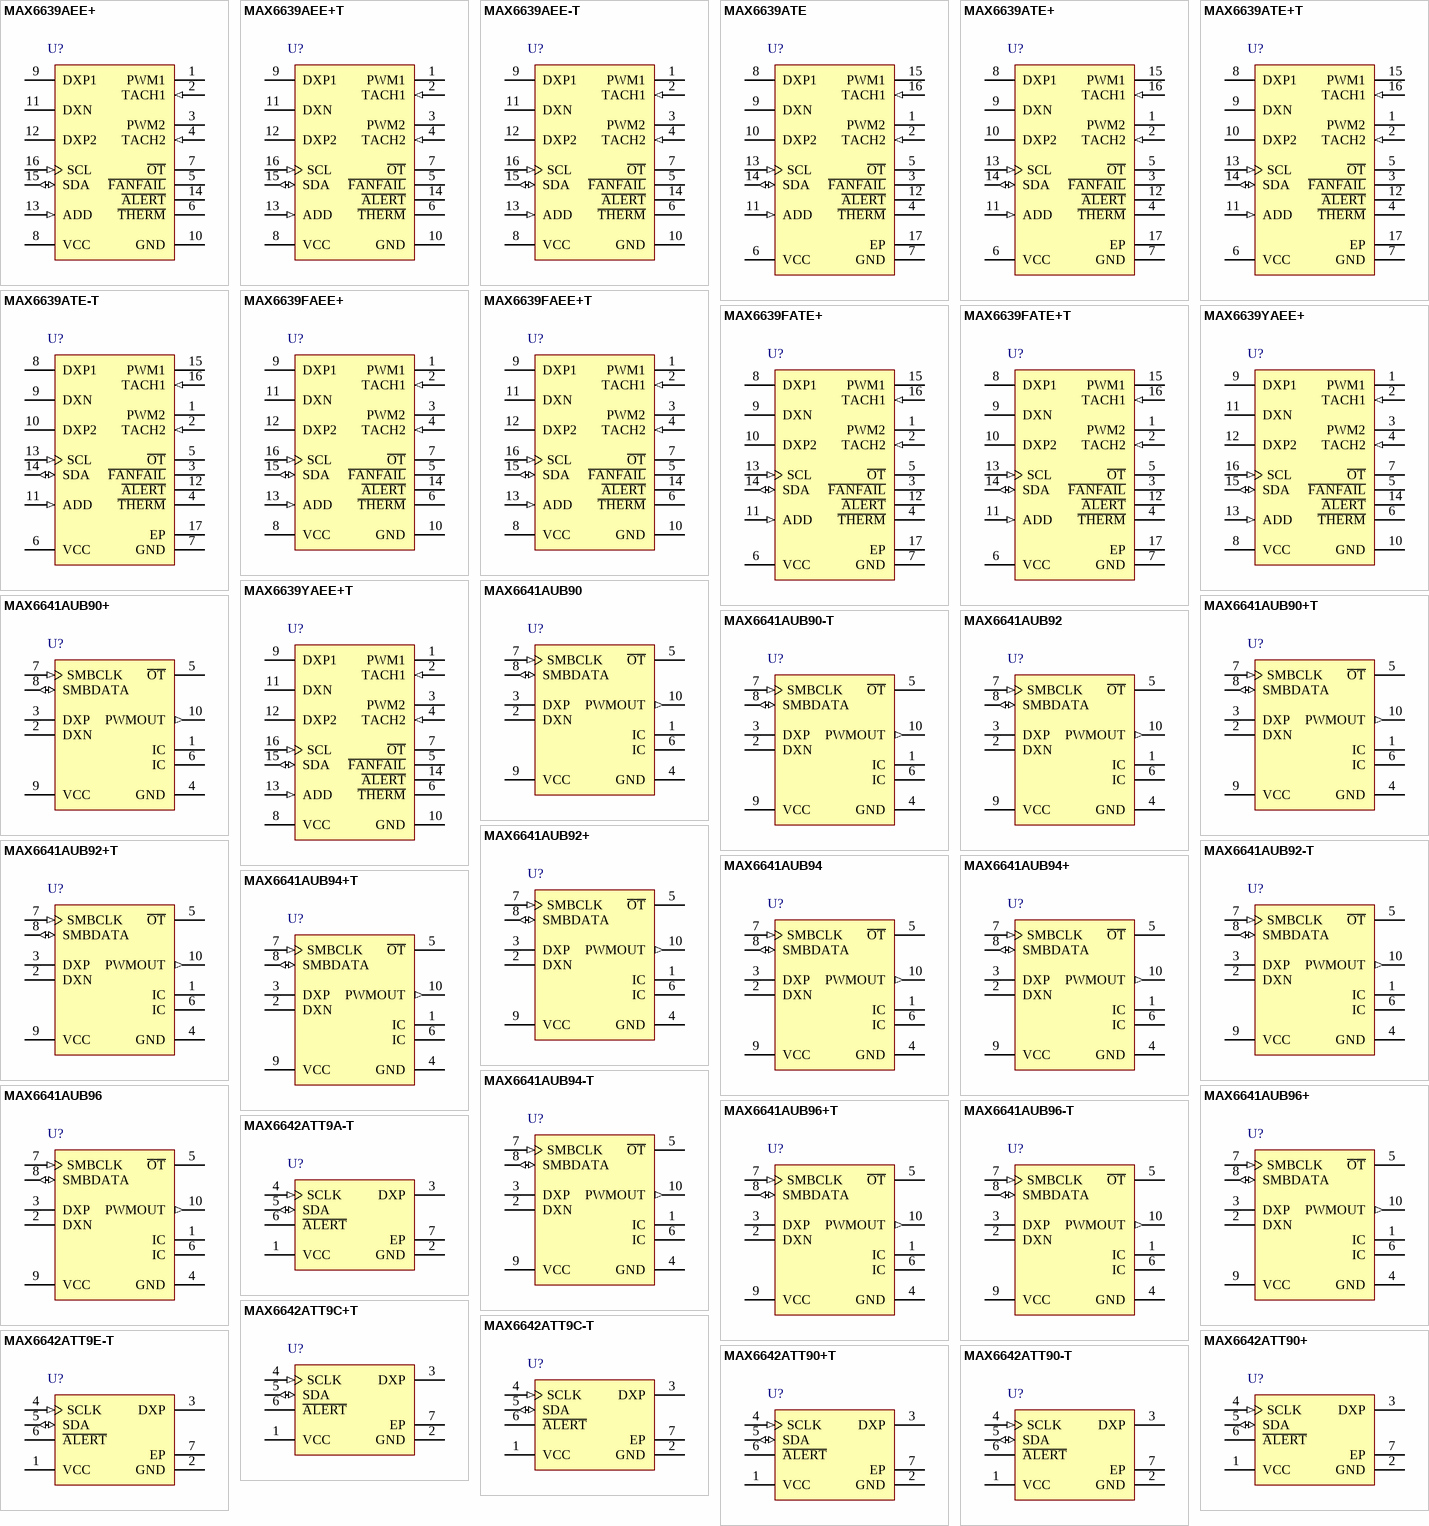
[diagram p17: symbols MAX6639AEE+ to MAX6642ATT90-T]

## MAX6639AEE+
designator U?
2-Channel Temperature Monitor with Dual, Automatic, PWM Fan-Speed Controller, -40 to 125 degC, 16-Pin SOP (E16+1), Pb-Free; Generic Part Number: MAX6639; PartNumber: MAX6639AEE+; Fan Controller Functions: Remote & Local Sensor; Interface: 2-Wire/I2C/SMBus; DatasheetVersion: Rev. 2; PackageVersion: Rev. K, 04/2012; PackageReference: E16+1; PackageDescription: 16-Pin Quarter Small-Outline Package (E16+1), Body 4.90 x 3.89 mm, Pitch 0.635 mm; Supplier 1: Digi-Key; Supplier Part Number 1: MAX6639AEE+-ND; Supplier 2: Farnell; Supplier Part Number 2: 2071398; Supplier 3: Newark; Supplier Part Number 3: 28M1782; Supplier 4: Mouser; Supplier Part Number 4: 700-MAX6639AEE; Fan Cntrl.: PWM; Mounting Technology: Surface Mount; Code_JEDEC: MO137; ComponentLink1Description: Manufacturer URL; ComponentLink1URL: http://www.maximintegrated.com/; ComponentLink2Description: Datasheet; ComponentLink2URL: http://datasheets.maximintegrated.com/en/ds/MAX6639-MAX6639F.pdf; ComponentLink3Description: Package Specification; ComponentLink3URL: http://pdfserv.maximintegrated.com/package_dwgs/21-0055.PDF
footprint MAXM-E16+1_N (SOP, 16-Leads, Body 4.9x3.89mm, Pitch 0.635mm, IPC Medium Density)
footprint MAXM-E16+1_L (SOP, 16-Leads, Body 4.9x3.89mm, Pitch 0.635mm, IPC High Density)
footprint MAXM-E16+1_M (SOP, 16-Leads, Body 4.9x3.89mm, Pitch 0.635mm, IPC Low Density)
pins: 1 PWM1 (oc) "Open-Drain Output to Power-Transistor Driving Fan. Connect to the gate of a MOSFET or base of a bipolar transistor. PWM_ requires a pullup resistor. The pullup resistor can be connected to a supply voltage as high as 13.5V, (See Datasheet)", 2 TACH1 (in) "Tachometer Inputs. Connect to the tachometer output of the fan. TACH_ requires a pullup resistor. The pullup resistor can be connected to a supply voltage as high as 13.5V, regardless of the MAX6639’s supply voltage.", 3 PWM2 (oc) "Open-Drain Output to Power-Transistor Driving Fan. Connect to the gate of a MOSFET or base of a bipolar transistor. PWM_ requires a pullup resistor. The pullup resistor can be connected to a supply voltage as high as 13.5V, (See Datasheet)", 4 TACH2 (in) "Tachometer Inputs. Connect to the tachometer output of the fan. TACH_ requires a pullup resistor. The pullup resistor can be connected to a supply voltage as high as 13.5V, regardless of the MAX6639’s supply voltage.", 5 ~{FANFAIL} (oc) "Active-Low, Open-Drain, Fan-Failure Output. Open circuit when VCC = 0.", 6 ~{THERM} (oc) "Active-Low, Open-Drain Thermal Alarm Output. Typically used for clock throttling. Open circuit when VCC = 0.", 7 ~{OT} (oc) "Active-Low, Open-Drain Overtemperature Output. Typically used for system shutdown or clock throttling. Can be pulled up to 5.5V regardless of VCC. Open circuit when VCC = 0.", 8 VCC (power) "Power-Supply Input. 3.3V nominal. Bypass VCC to GND with a 0.1uF capacitor.", 9 DXP1 "Combined Current Source and A/D Positive Input for Remote Diode. Connect to anode of remote-diode-connected temperture-sensing transistor. Do not leave unconnected; connect to DXN if no remote diode is used. Place a 2200pF (See Datasheet)", 10 GND (power) "Ground. Connect to a clean ground reference.", 11 DXN "Remote Diode Current Sink Input. Connect Cathode of the Remote-Diode- Connected Transistor to DXN", 12 DXP2 "Combined Current Source and A/D Positive Input for Remote Diode. Connect to anode of remote-diode-connected temperture-sensing transistor. Do not leave unconnected; connect to DXN if no remote diode is used. Place a 2200pF (See Datasheet)", 13 ADD (in) "Address Input. Sets device slave address. Connect to GND, VCC, or leave unconnected to give three unique addresses. See Table 1.", 14 ~{ALERT} (oc) "Active-Low, Open-Drain SMBus Alert Output", 15 SDA (io) "SMBus Serial-Data Input/Output, Open Drain. Can be pulled up to 5.5V regardless of VCC. Open circuit when VCC = 0.", 16 SCL (in) "SMBus Serial-Clock Input. Can be pulled up to 5.5V regardless of VCC. Open circuit when VCC = 0."

## MAX6639AEE+T
designator U?
2-Channel Temperature Monitor with Dual, Automatic, PWM Fan-Speed Controller, -40 to 125 degC, 16-Pin SOP (E16+1), Pb-Free, Tape and Reel; Generic Part Number: MAX6639; PartNumber: MAX6639AEE+T; Fan Controller Functions: Remote & Local Sensor; Interface: 2-Wire/I2C/SMBus; DatasheetVersion: Rev. 2; PackageVersion: Rev. K, 04/2012; PackageReference: E16+1; PackageDescription: 16-Pin Quarter Small-Outline Package (E16+1), Body 4.90 x 3.89 mm, Pitch 0.635 mm; Supplier 1: Digi-Key; Supplier Part Number 1: MAX6639AEE+TTR-ND; Supplier 2: Digi-Key; Supplier Part Number 2: MAX6639AEE+TCT-ND; Supplier 3: Digi-Key; Supplier Part Number 3: MAX6639AEE+TDKR-ND; Supplier 4: Mouser; Supplier Part Number 4: 700-MAX6639AEET; Fan Cntrl.: PWM; Packing: Tape and Reel; Mounting Technology: Surface Mount; Code_JEDEC: MO137; ComponentLink1Description: Manufacturer URL; ComponentLink1URL: http://www.maximintegrated.com/; ComponentLink2Description: Datasheet; ComponentLink2URL: http://datasheets.maximintegrated.com/en/ds/MAX6639-MAX6639F.pdf; ComponentLink3Description: Package Specification; ComponentLink3URL: http://pdfserv.maximintegrated.com/package_dwgs/21-0055.PDF
footprint MAXM-E16+1_N (SOP, 16-Leads, Body 4.9x3.89mm, Pitch 0.635mm, IPC Medium Density)
footprint MAXM-E16+1_L (SOP, 16-Leads, Body 4.9x3.89mm, Pitch 0.635mm, IPC High Density)
footprint MAXM-E16+1_M (SOP, 16-Leads, Body 4.9x3.89mm, Pitch 0.635mm, IPC Low Density)
pins: 1 PWM1 (oc) "Open-Drain Output to Power-Transistor Driving Fan. Connect to the gate of a MOSFET or base of a bipolar transistor. PWM_ requires a pullup resistor. The pullup resistor can be connected to a supply voltage as high as 13.5V, (See Datasheet)", 2 TACH1 (in) "Tachometer Inputs. Connect to the tachometer output of the fan. TACH_ requires a pullup resistor. The pullup resistor can be connected to a supply voltage as high as 13.5V, regardless of the MAX6639’s supply voltage.", 3 PWM2 (oc) "Open-Drain Output to Power-Transistor Driving Fan. Connect to the gate of a MOSFET or base of a bipolar transistor. PWM_ requires a pullup resistor. The pullup resistor can be connected to a supply voltage as high as 13.5V, (See Datasheet)", 4 TACH2 (in) "Tachometer Inputs. Connect to the tachometer output of the fan. TACH_ requires a pullup resistor. The pullup resistor can be connected to a supply voltage as high as 13.5V, regardless of the MAX6639’s supply voltage.", 5 ~{FANFAIL} (oc) "Active-Low, Open-Drain, Fan-Failure Output. Open circuit when VCC = 0.", 6 ~{THERM} (oc) "Active-Low, Open-Drain Thermal Alarm Output. Typically used for clock throttling. Open circuit when VCC = 0.", 7 ~{OT} (oc) "Active-Low, Open-Drain Overtemperature Output. Typically used for system shutdown or clock throttling. Can be pulled up to 5.5V regardless of VCC. Open circuit when VCC = 0.", 8 VCC (power) "Power-Supply Input. 3.3V nominal. Bypass VCC to GND with a 0.1uF capacitor.", 9 DXP1 "Combined Current Source and A/D Positive Input for Remote Diode. Connect to anode of remote-diode-connected temperture-sensing transistor. Do not leave unconnected; connect to DXN if no remote diode is used. Place a 2200pF (See Datasheet)", 10 GND (power) "Ground. Connect to a clean ground reference.", 11 DXN "Remote Diode Current Sink Input. Connect Cathode of the Remote-Diode- Connected Transistor to DXN", 12 DXP2 "Combined Current Source and A/D Positive Input for Remote Diode. Connect to anode of remote-diode-connected temperture-sensing transistor. Do not leave unconnected; connect to DXN if no remote diode is used. Place a 2200pF (See Datasheet)", 13 ADD (in) "Address Input. Sets device slave address. Connect to GND, VCC, or leave unconnected to give three unique addresses. See Table 1.", 14 ~{ALERT} (oc) "Active-Low, Open-Drain SMBus Alert Output", 15 SDA (io) "SMBus Serial-Data Input/Output, Open Drain. Can be pulled up to 5.5V regardless of VCC. Open circuit when VCC = 0.", 16 SCL (in) "SMBus Serial-Clock Input. Can be pulled up to 5.5V regardless of VCC. Open circuit when VCC = 0."

## MAX6639AEE-T
designator U?
2-Channel Temperature Monitor with Dual, Automatic, PWM Fan-Speed Controller, -40 to 125 degC, 16-Pin SOP (E16-1), Tape and Reel; Generic Part Number: MAX6639; PartNumber: MAX6639AEE-T; Fan Controller Functions: Remote & Local Sensor; Interface: 2-Wire/I2C/SMBus; DatasheetVersion: Rev. 2; PackageVersion: Rev. K, 04/2012; PackageReference: E16-1; PackageDescription: 16-Pin Quarter Small-Outline Package (E16-1), Body 4.90 x 3.89 mm, Pitch 0.635 mm; Supplier 1: Mouser; Supplier Part Number 1: N/A; Fan Cntrl.: PWM; Packing: Tape and Reel; Mounting Technology: Surface Mount; Code_JEDEC: MO137; ComponentLink1Description: Manufacturer URL; ComponentLink1URL: http://www.maximintegrated.com/; ComponentLink2Description: Datasheet; ComponentLink2URL: http://datasheets.maximintegrated.com/en/ds/MAX6639-MAX6639F.pdf; ComponentLink3Description: Package Specification; ComponentLink3URL: http://pdfserv.maximintegrated.com/package_dwgs/21-0055.PDF
footprint MAXM-E16-1_N (SOP, 16-Leads, Body 4.9x3.89mm, Pitch 0.635mm, IPC Medium Density)
footprint MAXM-E16-1_L (SOP, 16-Leads, Body 4.9x3.89mm, Pitch 0.635mm, IPC High Density)
footprint MAXM-E16-1_M (SOP, 16-Leads, Body 4.9x3.89mm, Pitch 0.635mm, IPC Low Density)
pins: 1 PWM1 (oc) "Open-Drain Output to Power-Transistor Driving Fan. Connect to the gate of a MOSFET or base of a bipolar transistor. PWM_ requires a pullup resistor. The pullup resistor can be connected to a supply voltage as high as 13.5V, (See Datasheet)", 2 TACH1 (in) "Tachometer Inputs. Connect to the tachometer output of the fan. TACH_ requires a pullup resistor. The pullup resistor can be connected to a supply voltage as high as 13.5V, regardless of the MAX6639’s supply voltage.", 3 PWM2 (oc) "Open-Drain Output to Power-Transistor Driving Fan. Connect to the gate of a MOSFET or base of a bipolar transistor. PWM_ requires a pullup resistor. The pullup resistor can be connected to a supply voltage as high as 13.5V, (See Datasheet)", 4 TACH2 (in) "Tachometer Inputs. Connect to the tachometer output of the fan. TACH_ requires a pullup resistor. The pullup resistor can be connected to a supply voltage as high as 13.5V, regardless of the MAX6639’s supply voltage.", 5 ~{FANFAIL} (oc) "Active-Low, Open-Drain, Fan-Failure Output. Open circuit when VCC = 0.", 6 ~{THERM} (oc) "Active-Low, Open-Drain Thermal Alarm Output. Typically used for clock throttling. Open circuit when VCC = 0.", 7 ~{OT} (oc) "Active-Low, Open-Drain Overtemperature Output. Typically used for system shutdown or clock throttling. Can be pulled up to 5.5V regardless of VCC. Open circuit when VCC = 0.", 8 VCC (power) "Power-Supply Input. 3.3V nominal. Bypass VCC to GND with a 0.1uF capacitor.", 9 DXP1 "Combined Current Source and A/D Positive Input for Remote Diode. Connect to anode of remote-diode-connected temperture-sensing transistor. Do not leave unconnected; connect to DXN if no remote diode is used. Place a 2200pF (See Datasheet)", 10 GND (power) "Ground. Connect to a clean ground reference.", 11 DXN "Remote Diode Current Sink Input. Connect Cathode of the Remote-Diode- Connected Transistor to DXN", 12 DXP2 "Combined Current Source and A/D Positive Input for Remote Diode. Connect to anode of remote-diode-connected temperture-sensing transistor. Do not leave unconnected; connect to DXN if no remote diode is used. Place a 2200pF (See Datasheet)", 13 ADD (in) "Address Input. Sets device slave address. Connect to GND, VCC, or leave unconnected to give three unique addresses. See Table 1.", 14 ~{ALERT} (oc) "Active-Low, Open-Drain SMBus Alert Output", 15 SDA (io) "SMBus Serial-Data Input/Output, Open Drain. Can be pulled up to 5.5V regardless of VCC. Open circuit when VCC = 0.", 16 SCL (in) "SMBus Serial-Clock Input. Can be pulled up to 5.5V regardless of VCC. Open circuit when VCC = 0."